# Altium schematic symbol library Thesis_Testboard_V1I1.SchLib: 33 symbols
Pins are listed as number, name and electrical type; pins without a type are passive.

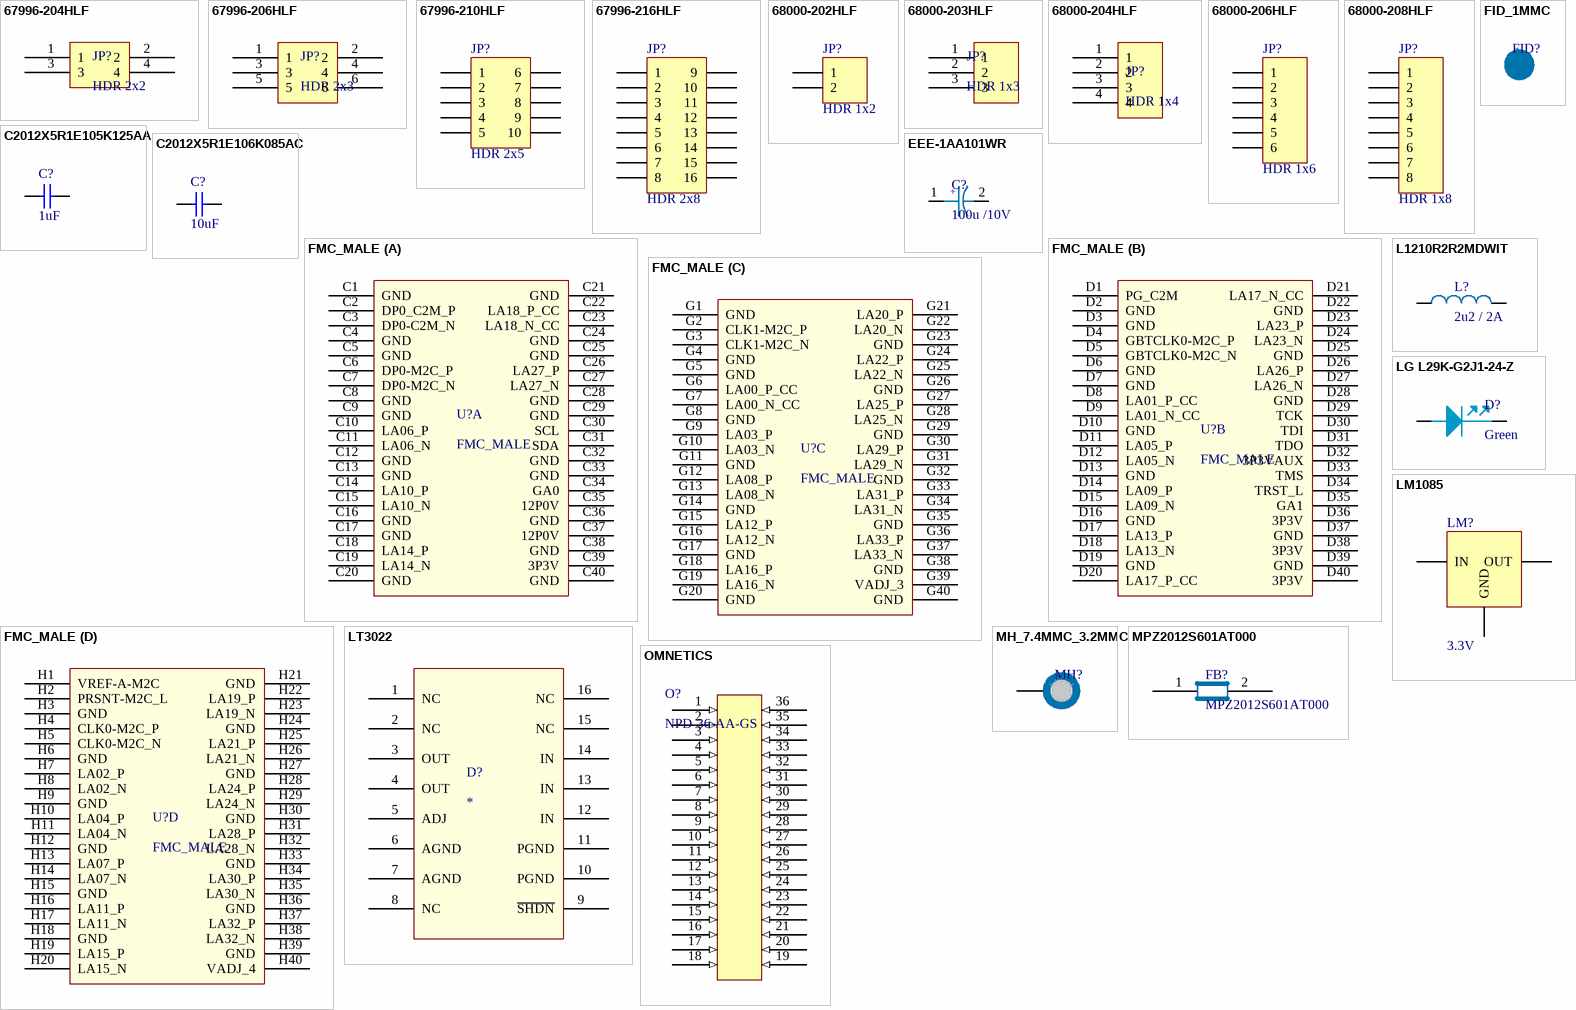
[diagram p0: symbols 67996-204HLF to OMNETICS]

## 67996-204HLF
designator JP?, comment HDR 2x2
B.II CONN HEADER 4POS .100 STR 15AU; Manufacturer: Amphenol FCI; Manufacturer Part Number: 67996-204HLF; Current Rating: 3A; Voltage Rating: 1.5kV; Number of Positions: 4; Insulation Resistance: 5GR; Gender: Male; Connector Type: Male Pin; Pitch: 2.54mm; Row Spacing: 0.1inch; Mating Post Length: 5.84mm; Supplier 1: Digi-Key; Stock 1: 304; Pricing 1: 1=0.31, 10=0.296, 100=0.2075, 500=0.1779, 1000=0.1482, 5000=0.1271, 10000=0.1186 (USD); Mount: Through Hole; Contact Plating: Nickel,Gold,GXT; Contact Material: Bronze; Colour: Black; Housing Colour: Black; Housing Material: Thermoplastic; Min Operating Temperature: -65°C; Max Operating Temperature: 125°C; Number of Rows: 2; Package Quantity: 100; Packaging: Bulk; Contact Gender: Male; Termination: Solder; Max Voltage Rating (AC): 1.5kV; Number of Contacts: 4; Orientation: Straight; Length: 5.08mm; Contact Mating Length: 0.23inch; Termination Post Length: 2.41mm; Depth: 4.83mm; Radiation Hardening: No; ComponentLink1URL: https://datasheet.ciiva.com/728/67996-728886.pdf; ComponentLink1Description: https://datasheet.ciiva.com/728/67996-728886.pdf; ComponentLink2URL: https://datasheet.ciiva.com/5162/67996-222023-5162283.pdf; ComponentLink2Description: https://datasheet.ciiva.com/5162/67996-222023-5162283.pdf; ComponentLink3URL: https://datasheet.ciiva.com/22872/70302478-22872987.pdf; ComponentLink3Description: https://datasheet.ciiva.com/22872/70302478-22872987.pdf; ComponentLink4URL: https://datasheet.ciiva.com/10149/67996-10149727.pdf; ComponentLink4Description: https://datasheet.ciiva.com/10149/67996-10149727.pdf; Supplier Part Number 1: 609-3209-ND
footprint HDR_2x2_2.54mm
pins: 1, 2, 3, 4

## 67996-206HLF
designator JP?, comment HDR 2x3
B.II CONN HEADER 6POS .100 STR 15AU; Manufacturer: Amphenol FCI; Manufacturer Part Number: 67996-206HLF; Number of Contacts: 6; Voltage Rating: 1.5kV; Gender: Male; Connector Type: Male Pin; Current Rating: 3A; Insulation Resistance: 5GR; Pitch: 2.54mm; Row Spacing: 0.1inch; Mating Post Length: 5.84mm; Supplier 1: Digi-Key; Stock 1: 6174; Pricing 1: 1=0.42, 10=0.397, 100=0.2778, 500=0.2381, 1000=0.1985, 5000=0.1701, 10000=0.1588 (USD); Mount: Through Hole; Colour: Black; Housing Colour: Black; Housing Material: Thermoplastic; Contact Plating: Nickel,Gold,GXT; Contact Material: Bronze; Min Operating Temperature: -65°C; Max Operating Temperature: 125°C; Number of Rows: 2; Termination: Solder; Package Quantity: 100; Packaging: Bulk; Contact Gender: Male; Number of Positions: 6; Max Voltage Rating (AC): 1.5kV; Orientation: Straight; Length: 7.62mm; Depth: 4.83mm; Contact Mating Length: 0.23inch; Termination Post Length: 2.41mm; Radiation Hardening: No; REACH SVHC: No SVHC; Flammability Rating: UL94 V-0; ComponentLink1URL: https://datasheet.ciiva.com/728/67996-728902.pdf; ComponentLink1Description: https://datasheet.ciiva.com/728/67996-728902.pdf; ComponentLink2URL: https://datasheet.ciiva.com/10149/67996-10149193.pdf; ComponentLink2Description: https://datasheet.ciiva.com/10149/67996-10149193.pdf; ComponentLink3URL: https://datasheet.ciiva.com/46393/1748781-46393068.pdf; ComponentLink3Description: https://datasheet.ciiva.com/46393/1748781-46393068.pdf; ComponentLink4URL: https://datasheet.ciiva.com/14642/70236869-14642013.pdf; ComponentLink4Description: https://datasheet.ciiva.com/14642/70236869-14642013.pdf; Supplier Part Number 1: 609-3210-ND
footprint HDR_2x3_2.54mm
pins: 1, 2, 3, 4, 5, 6

## 67996-210HLF
designator JP?, comment HDR 2x5
B.II CONN HEADER 10POS .100 STR 15AU; Manufacturer: Amphenol FCI; Manufacturer Part Number: 67996-210HLF; Number of Contacts: 10; Voltage Rating: 1.5kV; Gender: Male; Connector Type: Male Pin; Current Rating: 3A; Insulation Resistance: 5GR; Pitch: 2.54mm; Row Spacing: 0.1inch; Mating Post Length: 5.84mm; Supplier 1: Digi-Key; Stock 1: 294; Pricing 1: 1=0.67, 10=0.625, 100=0.4791, 500=0.4166, 1000=0.3437, 5000=0.302, 10000=0.2812 (USD); Mount: Through Hole; Colour: Black; Housing Colour: Black; Housing Material: Thermoplastic; Contact Plating: Nickel,Gold,GXT; Contact Material: Bronze; Min Operating Temperature: -65°C; Max Operating Temperature: 125°C; Number of Rows: 2; Termination: Solder; Contact Gender: Male; Package Quantity: 100; Packaging: Bulk; Number of Positions: 10; Max Voltage Rating (AC): 1.5kV; Orientation: Straight; Length: 12.7mm; Depth: 4.83mm; Termination Post Length: 2.41mm; Contact Mating Length: 0.23inch; Radiation Hardening: No; REACH SVHC: No SVHC; Lead Free: Lead Free; Flammability Rating: UL94 V-0; ComponentLink1URL: https://datasheet.ciiva.com/16726/67996-16726277.pdf; ComponentLink1Description: https://datasheet.ciiva.com/16726/67996-16726277.pdf; ComponentLink2URL: https://datasheet.ciiva.com/728/67996-728966.pdf; ComponentLink2Description: https://datasheet.ciiva.com/728/67996-728966.pdf; Supplier Part Number 1: 609-3212-ND
footprint HDR_2X5_2.54MM (Connector; Header; 5x2 Position)
pins: 1, 2, 3, 4, 5, 6, 7, 8, 9, 10

## 67996-216HLF
designator JP?, comment HDR 2x8
B.II CONN HEADER 16POS .100 STR 15AU; Manufacturer: Amphenol FCI; Manufacturer Part Number: 67996-216HLF; Current Rating: 3A; Voltage Rating: 1.5kV; Number of Positions: 16; Insulation Resistance: 5GR; Gender: Male; Connector Type: Male Pin; Pitch: 2.54mm; Mating Post Length: 5.84mm; Row Spacing: 0.1inch; Supplier 1: Digi-Key; Stock 1: 277; Pricing 1: 1=1.3, 10=1.141, 100=0.9843, 500=0.8053, 1000=0.7158, 5000=0.6264, 10000=0.595 (USD); Mount: Through Hole; Contact Plating: Nickel,Gold,GXT; Contact Material: Bronze; Colour: Black; Housing Colour: Black; Housing Material: Thermoplastic; Min Operating Temperature: -65°C; Max Operating Temperature: 125°C; Number of Rows: 2; Contact Gender: Male; Packaging: Bulk; Package Quantity: 100; Termination: Solder; Max Voltage Rating (AC): 1.5kV; Number of Contacts: 16; Orientation: Straight; Length: 20.32mm; Termination Post Length: 2.41mm; Contact Mating Length: 0.23inch; Depth: 4.83mm; Flammability Rating: UL94 V-0; ComponentLink1URL: https://datasheet.ciiva.com/5164/67996-223034-5164025.pdf; ComponentLink1Description: https://datasheet.ciiva.com/5164/67996-223034-5164025.pdf; ComponentLink2URL: https://datasheet.ciiva.com/10131/67996-10131066.pdf; ComponentLink2Description: https://datasheet.ciiva.com/10131/67996-10131066.pdf; ComponentLink3URL: https://datasheet.ciiva.com/726/67996-726509.pdf; ComponentLink3Description: https://datasheet.ciiva.com/726/67996-726509.pdf; Supplier Part Number 1: 609-3389-ND
footprint HDR_2X8_2.54mm (Connector; Header; 8x2 Position)
pins: 1, 2, 3, 4, 5, 6, 7, 8, 9, 10, 11, 12, 13, 14, 15, 16

## 68000-202HLF
designator JP?, comment HDR 1x2
B.II CONN HEADER 2POS .100 STR 15AU; Manufacturer: Amphenol FCI; Manufacturer Part Number: 68000-202HLF; Number of Contacts: 2; Current Rating: 3A; Voltage Rating: 1.5kV; Insulation Resistance: 5GR; Gender: Male; Connector Type: Male Pin; Pitch: 2.54mm; Mating Post Length: 5.84mm; Supplier 1: Digi-Key; Stock 1: 11031; Pricing 1: 1=0.26, 10=0.24, 100=0.1667, 500=0.141, 1000=0.1154, 5000=0.1026, 10000=0.093 (USD); Mount: Through Hole; Contact Plating: Nickel,Gold,GXT; Colour: Black; Contact Material: Bronze; Housing Colour: Black; Housing Material: Thermoplastic; Min Operating Temperature: -65°C; Max Operating Temperature: 125°C; Number of Rows: 1; Termination: Through Hole; Package Quantity: 100; Packaging: Bulk; Contact Gender: Male; Number of Positions: 2; Max Voltage Rating (AC): 1.5kV; Orientation: Straight; Length: 5.08mm; Contact Mating Length: 0.23inch; Termination Post Length: 2.41mm; Depth: 2.41mm; Radiation Hardening: No; REACH SVHC: No SVHC; Flammability Rating: UL94 V-0; Lead Free: Lead Free; ComponentLink1URL: https://datasheet.ciiva.com/721/68000-721376.pdf; ComponentLink1Description: https://datasheet.ciiva.com/721/68000-721376.pdf; ComponentLink2URL: https://datasheet.ciiva.com/16726/68000-16726249.pdf; ComponentLink2Description: https://datasheet.ciiva.com/16726/68000-16726249.pdf; ComponentLink3URL: https://datasheet.ciiva.com/10149/68000-10149325.pdf; ComponentLink3Description: https://datasheet.ciiva.com/10149/68000-10149325.pdf; Supplier Part Number 1: 609-3502-ND
footprint HDR_1X2_2.54mm (Connector; Header; 2 Position)
pins: 1, 2

## 68000-203HLF
designator JP?, comment HDR 1x3
B.II CONN HEADER 3POS .100 STR 15AU; Manufacturer: Amphenol FCI; Manufacturer Part Number: 68000-203HLF; Number of Contacts: 3; Current Rating: 3A; Voltage Rating: 1.5kV; Insulation Resistance: 5GR; Gender: Male; Connector Type: Male Pin; Pitch: 2.54mm; Mating Post Length: 5.84mm; Supplier 1: Digi-Key; Stock 1: 4708; Pricing 1: 1=0.27, 10=0.259, 100=0.1815, 500=0.1556, 1000=0.1297, 5000=0.1112, 10000=0.1037 (USD); Mount: Through Hole; Contact Plating: Nickel,Gold,GXT; Contact Material: Bronze; Colour: Black; Housing Colour: Black; Housing Material: Thermoplastic; Min Operating Temperature: -65°C; Max Operating Temperature: 125°C; Number of Rows: 1; Termination: Solder; Contact Gender: Male; Package Quantity: 100; Packaging: Bulk; Number of Positions: 3; Max Voltage Rating (AC): 1.5kV; Orientation: Straight; Length: 7.62mm; Termination Post Length: 2.41mm; Contact Mating Length: 0.23inch; Depth: 2.41mm; Radiation Hardening: No; REACH SVHC: No SVHC; Lead Free: Lead Free; ComponentLink1URL: https://datasheet.ciiva.com/5154/68000-274221-5154755.pdf; ComponentLink1Description: https://datasheet.ciiva.com/5154/68000-274221-5154755.pdf; ComponentLink2URL: https://datasheet.ciiva.com/46392/1914865-46392024.pdf; ComponentLink2Description: https://datasheet.ciiva.com/46392/1914865-46392024.pdf; ComponentLink3URL: https://datasheet.ciiva.com/16726/68000-16726250.pdf; ComponentLink3Description: https://datasheet.ciiva.com/16726/68000-16726250.pdf; ComponentLink4URL: https://datasheet.ciiva.com/731/68000-731067.pdf; ComponentLink4Description: https://datasheet.ciiva.com/731/68000-731067.pdf; ComponentLink5URL: https://datasheet.ciiva.com/10149/68000-10149758.pdf; ComponentLink5Description: https://datasheet.ciiva.com/10149/68000-10149758.pdf; Supplier Part Number 1: 609-3464-ND
footprint Hdr_1x3_2.54mm
pins: 1, 2, 3

## 68000-204HLF
designator JP?, comment HDR 1x4
B.II CONN HEADER 4POS .100 STR 15AU; Manufacturer: Amphenol FCI; Manufacturer Part Number: 68000-204HLF; Voltage Rating: 1.5kV; Number of Positions: 4; Gender: Male; Connector Type: Male Pin; Current Rating: 3A; Insulation Resistance: 5GR; Pitch: 2.54mm; Mating Post Length: 5.84mm; Supplier 1: Digi-Key; Stock 1: 4921; Pricing 1: 1=0.31, 10=0.293, 100=0.2048, 500=0.1756, 1000=0.1463, 5000=0.1254, 10000=0.117 (USD); Mount: Through Hole; Colour: Black; Housing Colour: Black; Housing Material: Thermoplastic; Contact Plating: Nickel,Gold,GXT; Contact Material: Bronze; Min Operating Temperature: -65°C; Max Operating Temperature: 125°C; Package Quantity: 100; Number of Rows: 1; Packaging: Bulk; Contact Gender: Male; Termination: Solder; Max Voltage Rating (AC): 1.5kV; Number of Contacts: 4; Orientation: Straight; Length: 10.16mm; Depth: 2.41mm; Contact Mating Length: 0.23inch; Termination Post Length: 2.41mm; Radiation Hardening: No; Flammability Rating: UL94 V-0; ComponentLink1URL: https://datasheet.ciiva.com/728/68000-728901.pdf; ComponentLink1Description: https://datasheet.ciiva.com/728/68000-728901.pdf; ComponentLink2URL: https://datasheet.ciiva.com/22873/70302489-22873093.pdf; ComponentLink2Description: https://datasheet.ciiva.com/22873/70302489-22873093.pdf; ComponentLink3URL: https://datasheet.ciiva.com/10149/68000-10149835.pdf; ComponentLink3Description: https://datasheet.ciiva.com/10149/68000-10149835.pdf; ComponentLink4URL: https://datasheet.ciiva.com/5149/68000-274280-5149869.pdf; ComponentLink4Description: https://datasheet.ciiva.com/5149/68000-274280-5149869.pdf; ComponentLink5URL: https://datasheet.ciiva.com/46395/1914865-46395853.pdf; ComponentLink5Description: https://datasheet.ciiva.com/46395/1914865-46395853.pdf; Supplier Part Number 1: 609-3255-ND
footprint Hdr_1x4_2.54mm
pins: 1, 2, 3, 4

## 68000-206HLF
designator JP?, comment HDR 1x6
B.II CONN HEADER 6POS .100 STR 15AU; Manufacturer: Amphenol FCI; Manufacturer Part Number: 68000-206HLF; Number of Contacts: 6; Voltage Rating: 1.5kV; Gender: Male; Connector Type: Male Pin; Current Rating: 3A; Insulation Resistance: 5GR; Pitch: 2.54mm; Mating Post Length: 5.84mm; Supplier 1: Digi-Key; Stock 1: 11978; Pricing 1: 1=0.34, 10=0.321, 100=0.2249, 500=0.1928, 1000=0.1607, 5000=0.1377, 10000=0.1285 (USD); Mount: Through Hole; Colour: Black; Contact Plating: Nickel,Gold,GXT; Housing Colour: Black; Housing Material: Thermoplastic; Contact Material: Bronze; Min Operating Temperature: -65°C; Max Operating Temperature: 125°C; Number of Rows: 1; Termination: Solder; Package Quantity: 100; Packaging: Bulk; Contact Gender: Male; Number of Positions: 6; Max Voltage Rating (AC): 1.5kV; Orientation: Straight; Length: 15.24mm; Depth: 2.41mm; Contact Mating Length: 0.23inch; Termination Post Length: 2.41mm; Radiation Hardening: No; REACH SVHC: No SVHC; Flammability Rating: UL94 V-0; ComponentLink1URL: https://datasheet.ciiva.com/728/68000-728913.pdf; ComponentLink1Description: https://datasheet.ciiva.com/728/68000-728913.pdf; ComponentLink2URL: https://datasheet.ciiva.com/14643/70236741-14643030.pdf; ComponentLink2Description: https://datasheet.ciiva.com/14643/70236741-14643030.pdf; ComponentLink3URL: https://datasheet.ciiva.com/10148/68000-10148986.pdf; ComponentLink3Description: https://datasheet.ciiva.com/10148/68000-10148986.pdf; ComponentLink4URL: https://datasheet.ciiva.com/16726/68000-16726251.pdf; ComponentLink4Description: https://datasheet.ciiva.com/16726/68000-16726251.pdf; Supplier Part Number 1: 609-3256-ND
footprint HDR_1X6_2.54mm (Connector; Header; 6 Position)
pins: 1, 2, 3, 4, 5, 6

## 68000-208HLF
designator JP?, comment HDR 1x8
B.II CONN HEADER 8POS .100 STR 15AU; Manufacturer: Amphenol FCI; Manufacturer Part Number: 68000-208HLF; Current Rating: 3A; Voltage Rating: 1.5kV; Number of Positions: 8; Insulation Resistance: 5GR; Gender: Male; Connector Type: Male Pin; Pitch: 2.54mm; Mating Post Length: 5.84mm; Supplier 1: Digi-Key; Stock 1: 955; Pricing 1: 1=0.45, 10=0.429, 100=0.3001, 500=0.2573, 1000=0.2144, 5000=0.1838, 10000=0.1715 (USD); Mount: Through Hole; Contact Plating: Nickel,Gold,GXT; Contact Material: Bronze; Colour: Black; Housing Colour: Black; Housing Material: Thermoplastic; Min Operating Temperature: -65°C; Max Operating Temperature: 125°C; Number of Rows: 1; Contact Gender: Male; Packaging: Bulk; Package Quantity: 100; Termination: Solder; Max Voltage Rating (AC): 1.5kV; Number of Contacts: 8; Orientation: Straight; Length: 20.32mm; Termination Post Length: 2.41mm; Contact Mating Length: 0.23inch; Depth: 2.41mm; Radiation Hardening: No; REACH SVHC: No SVHC; Flammability Rating: UL94 V-0; ComponentLink1URL: https://datasheet.ciiva.com/728/68000-728927.pdf; ComponentLink1Description: https://datasheet.ciiva.com/728/68000-728927.pdf; ComponentLink2URL: https://datasheet.ciiva.com/10143/68000-10143263.pdf; ComponentLink2Description: https://datasheet.ciiva.com/10143/68000-10143263.pdf; Supplier Part Number 1: 609-3257-ND
footprint HDR_1X8_2.54mm (Connector; Header; 8 Position)
pins: 1, 2, 3, 4, 5, 6, 7, 8

## C2012X5R1E105K125AA
designator C?, comment 1uF
CAP 1UF; Manufacturer: TDK; Manufacturer Part Number: C2012X5R1E105K125AA; Dielectric Material: Ceramic; Tolerance: 10%; Voltage Rating: 25V; Dielectric: X5R; Supplier 1: Digi-Key; Stock 1: 517560; Pricing 1: 1=0.21, 10=0.146, 100=0.0688, 500=0.0482, 1000=0.0399 (USD); Mount: Surface Mount; Case/Package: 0805; Number of Pins: 2; Weight: 0.000194oz; Case Code (Metric): 2012; Case Code (Imperial): 0805; Min Operating Temperature: -55°C; Max Operating Temperature: 85°C; Package Quantity: 2000; Capacitance: 1uF; Packaging: Tape and Reel; Voltage Rating (DC): 25V; Termination: SMD/SMT; Composition: Ceramic; Voltage: 25V; Length: 2mm; Height: 1.25mm; Width: 0.049inch; Thickness: 0.057inch; Depth: 1.25mm; Radiation Hardening: No; REACH SVHC: No SVHC; Lead Free: Lead Free; ComponentLink1URL: https://datasheet.ciiva.com/11787/0900766b80c1bb00-11787608.pdf; ComponentLink1Description: https://datasheet.ciiva.com/11787/0900766b80c1bb00-11787608.pdf; ComponentLink2URL: https://datasheet.ciiva.com/24218/c2012x5r1e105k125aa-264807-24218920.pdf; ComponentLink2Description: https://datasheet.ciiva.com/24218/c2012x5r1e105k125aa-264807-24218920.pdf; ComponentLink3URL: https://datasheet.ciiva.com/16449/e412-c-16449595.pdf; ComponentLink3Description: https://datasheet.ciiva.com/16449/e412-c-16449595.pdf; ComponentLink4URL: https://datasheet.ciiva.com/28602/1744655-28602171.pdf; ComponentLink4Description: https://datasheet.ciiva.com/28602/1744655-28602171.pdf; ComponentLink5URL: https://datasheet.ciiva.com/15192/getdatasheetpartid-726707-15192140.pdf; ComponentLink5Description: https://datasheet.ciiva.com/15192/getdatasheetpartid-726707-15192140.pdf; Supplier Part Number 1: 445-1419-1-ND
footprint C0805
pins: 1, 2

## C2012X5R1E106K085AC
designator C?, comment 10uF
CAP 10UF; Manufacturer: TDK; Manufacturer Part Number: C2012X5R1E106K085AC; Dielectric Material: Ceramic; Tolerance: 10%; Voltage Rating: 25V; Dielectric: X5R; Supplier 1: Digi-Key; Stock 1: 18719; Pricing 1: 1=0.75, 10=0.53, 100=0.3493, 500=0.2588, 1000=0.2199 (USD); Mount: Surface Mount; Case/Package: 0805; Weight: 0.000194oz; Case Code (Metric): 2012; Case Code (Imperial): 0805; Min Operating Temperature: -55°C; Max Operating Temperature: 85°C; Package Quantity: 4000; Packaging: Tape and Reel; Capacitance: 10uF; Termination: SMD/SMT; Voltage Rating (DC): 25V; Length: 0.079inch; Height: 0.85mm; Width: 0.049inch; Thickness: 0.039inch; Lead Free: Lead Free; ComponentLink1URL: https://datasheet.ciiva.com/14894/tdkmlcccaprange-14894629.pdf; ComponentLink1Description: https://datasheet.ciiva.com/14894/tdkmlcccaprange-14894629.pdf; ComponentLink2URL: https://datasheet.ciiva.com/14894/tdkmlcccaprange-14894616.pdf; ComponentLink2Description: https://datasheet.ciiva.com/14894/tdkmlcccaprange-14894616.pdf; ComponentLink3URL: https://datasheet.ciiva.com/14894/tdkmlcccaprange-14894632.pdf; ComponentLink3Description: https://datasheet.ciiva.com/14894/tdkmlcccaprange-14894632.pdf; Supplier Part Number 1: 445-14387-1-ND
footprint C0805
pins: 1, 2

## EEE-1AA101WR
designator C?, comment 100u /10V
CAP ALUM 100UF 20% 10V SMD; Manufacturer: Panasonic Electronic Components; Manufacturer Part Number: EEE-1AA101WR; Lifetime @ Temp.: 1000 Hrs @ 85°C; Polarization: Polar; Surface Mount Land Size: 0.209" L x 0.209" W (5.30mm x 5.30mm); Supplier 1: Digi-Key; RoHS: RoHS Compliant; Category: Capacitors; Stock 1: 89696; Pricing 1: 1=0.31, 10=0.212, 100=0.1272, 500=0.09538 (USD); Packaging: Cut Tape (CT); Part Status: Active; Tolerance: ±20%; ESR (Equivalent Series Resistance): -; Operating Temperature: -40°C ~ 85°C; Ratings: AEC-Q200; Applications: Automotive; Lead Spacing: -; Size / Dimension: 0.197" Dia (5.00mm); Height - Seated (Max): 0.213" (5.40mm); Mounting Type: Surface Mount; Package / Case: Radial, Can - SMD; ComponentLink1URL: https://industrial.panasonic.com/cdbs/www-data/pdf/RDE0000/ABA0000C1145.pdf; ComponentLink1Description: https://industrial.panasonic.com/cdbs/www-data/pdf/RDE0000/ABA0000C1145.pdf; Supplier Part Number 1: PCE3867CT-ND
footprint C_ALU_C_SIZE
pins: 1, 2
text: +

## FID_1MMC
designator FID?  (value not drawn)  (no BOM)
Fiducial 40mil Diameter, 120mil Mask
footprint FID_40X120D

## FMC_MALE
designator U?
ASP-134604-01; Manufacturer: Samtec; Number of Contacts: 400; Number of Positions: 160; Gender: Male; Pitch: 0.05inch; Supplier 1: Digi-Key; Manufacturer Part Number: ASP-134604-01; Stock 1: 129; Pricing 1: 1=13.68, 10=13.224, 25=12.768, 50=12.312, 100=11.856, 250=11.628, 500=11.4 (USD); Mount: Surface Mount; Contact Plating: Nickel,Gold; Contact Material: Copper Alloy; Number of Rows: 4; Termination: SMD/SMT; Packaging: Tape and Reel; Radiation Hardening: No; REACH SVHC: No SVHC; ComponentLink1URL: https://datasheet.ciiva.com/403/asp-134604-01-403751.pdf; ComponentLink1Description: https://datasheet.ciiva.com/403/asp-134604-01-403751.pdf; ComponentLink2URL: https://datasheet.ciiva.com/9532/asp-134604-01-9532665.pdf; ComponentLink2Description: https://datasheet.ciiva.com/9532/asp-134604-01-9532665.pdf; Supplier Part Number 1: SAM8732-ND
footprint FMC_male
part A pins: C1 GND, C2 DP0_C2M_P, C3 DP0-C2M_N, C4 GND, C5 GND, C6 DP0-M2C_P, C7 DP0-M2C_N, C8 GND, C9 GND, C10 LA06_P, C11 LA06_N, C12 GND, C13 GND, C14 LA10_P, C15 LA10_N, C16 GND, C17 GND, C18 LA14_P, C19 LA14_N, C20 GND, C21 GND, C22 LA18_P_CC, C23 LA18_N_CC, C24 GND, C25 GND, C26 LA27_P, C27 LA27_N, C28 GND, C29 GND, C30 SCL, C31 SDA, C32 GND, C33 GND, C34 GA0, C35 12P0V, C36 GND, C37 12P0V, C38 GND, C39 3P3V, C40 GND
part B pins: D1 PG_C2M, D2 GND, D3 GND, D4 GBTCLK0-M2C_P, D5 GBTCLK0-M2C_N, D6 GND, D7 GND, D8 LA01_P_CC, D9 LA01_N_CC, D10 GND, D11 LA05_P, D12 LA05_N, D13 GND, D14 LA09_P, D15 LA09_N, D16 GND, D17 LA13_P, D18 LA13_N, D19 GND, D20 LA17_P_CC, D21 LA17_N_CC, D22 GND, D23 LA23_P, D24 LA23_N, D25 GND, D26 LA26_P, D27 LA26_N, D28 GND, D29 TCK, D30 TDI, D31 TDO, D32 3P3VAUX, D33 TMS, D34 TRST_L, D35 GA1, D36 3P3V, D37 GND, D38 3P3V, D39 GND, D40 3P3V
part C pins: G1 GND, G2 CLK1-M2C_P, G3 CLK1-M2C_N, G4 GND, G5 GND, G6 LA00_P_CC, G7 LA00_N_CC, G8 GND, G9 LA03_P, G10 LA03_N, G11 GND, G12 LA08_P, G13 LA08_N, G14 GND, G15 LA12_P, G16 LA12_N, G17 GND, G18 LA16_P, G19 LA16_N, G20 GND, G21 LA20_P, G22 LA20_N, G23 GND, G24 LA22_P, G25 LA22_N, G26 GND, G27 LA25_P, G28 LA25_N, G29 GND, G30 LA29_P, G31 LA29_N, G32 GND, G33 LA31_P, G34 LA31_N, G35 GND, G36 LA33_P, G37 LA33_N, G38 GND, G39 VADJ_3, G40 GND
part D pins: H1 VREF-A-M2C, H2 PRSNT-M2C_L, H3 GND, H4 CLK0-M2C_P, H5 CLK0-M2C_N, H6 GND, H7 LA02_P, H8 LA02_N, H9 GND, H10 LA04_P, H11 LA04_N, H12 GND, H13 LA07_P, H14 LA07_N, H15 GND, H16 LA11_P, H17 LA11_N, H18 GND, H19 LA15_P, H20 LA15_N, H21 GND, H22 LA19_P, H23 LA19_N, H24 GND, H25 LA21_P, H26 LA21_N, H27 GND, H28 LA24_P, H29 LA24_N, H30 GND, H31 LA28_P, H32 LA28_N, H33 GND, H34 LA30_P, H35 LA30_N, H36 GND, H37 LA32_P, H38 LA32_N, H39 GND, H40 VADJ_4

## L1210R2R2MDWIT
designator L?, comment 2u2 / 2A
FIXED IND 2.2UH 2A 80 MOHM SMD; Manufacturer: KEMET; Manufacturer Part Number: L1210R2R2MDWIT; Core Material: Ferrite; Tolerance: 20%; Shielding: Unshielded; Self Resonant Frequency: 190MHz; DC Resistance (DCR): 80mR; Test Frequency: 100kHz; DC Current: 1.13A; Supplier 1: Digi-Key; Stock 1: 24768; Pricing 1: 1=0.55, 10=0.479, 100=0.3421, 500=0.2874 (USD); Mount: Surface Mount; Case/Package: 1210; Case Code (Metric): 3225; Case Code (Imperial): 1210; Min Operating Temperature: -40°C; Max Operating Temperature: 105°C; Inductance: 2.2uh; Max DC Current: 2A; Package Quantity: 1000; Current Rating: 2A; Packaging: Tape and Reel; Inductance Tolerance: 20%; Composition: Wirewound,Ceramic; Termination: SMD/SMT; Military Standard: Not; Length: 0.126inch; Height: 2.5mm; Width: 0.098inch; Height - Seated (Max): 0.106inch; Depth: 2.7mm; Radiation Hardening: No; REACH SVHC: No SVHC; ComponentLink1URL: https://datasheet.ciiva.com/4957/f3115-4957838.pdf; ComponentLink1Description: https://datasheet.ciiva.com/4957/f3115-4957838.pdf; ComponentLink2URL: https://datasheet.ciiva.com/17280/f3115-17280270.pdf; ComponentLink2Description: https://datasheet.ciiva.com/17280/f3115-17280270.pdf; ComponentLink3URL: https://datasheet.ciiva.com/22685/27262-22685038.pdf; ComponentLink3Description: https://datasheet.ciiva.com/22685/27262-22685038.pdf; ComponentLink4URL: https://datasheet.ciiva.com/6691/f3115-6691487.pdf; ComponentLink4Description: https://datasheet.ciiva.com/6691/f3115-6691487.pdf; ComponentLink5URL: https://datasheet.ciiva.com/8512/f3115-8512543.pdf; ComponentLink5Description: https://datasheet.ciiva.com/8512/f3115-8512543.pdf; Supplier Part Number 1: 399-9598-1-ND
footprint C1210_IND
pins: 1, 2

## LG L29K-G2J1-24-Z
designator D?, comment Green
LED GREEN DIFFUSED 0603 SMD; Manufacturer: OSRAM Opto Semiconductors Inc.; Manufacturer Part Number: LG L29K-G2J1-24-Z; Lens Color: White; Millicandela Rating: 3.92mcd; Lens Style/Size: Rectangle with Flat Top, 1.30mm x 0.80mm; Voltage - Forward (Vf) (Typ): 1.7V; Current - Test: 2mA; Viewing Angle: 160°; Wavelength - Dominant: 570nm; Wavelength - Peak: 572nm; Supplier 1: Digi-Key; RoHS: RoHS Compliant; Category: Optoelectronics; Stock 1: 0; Pricing 1: 1=0.47, 10=0.339, 25=0.2768, 100=0.2215, 250=0.18688, 500=0.15918, 1000=0.12458, 2500=0.1142 (USD); Packaging: Cut Tape (CT); Part Status: Active; Color: Green; Lens Transparency: Diffused; Mounting Type: Surface Mount; Features: -; Package / Case: 0603 (1608 Metric); Supplier Device Package: 0603; Size / Dimension: 1.70mm L x 0.80mm W; Height (Max): 0.65mm; ComponentLink1URL: http://www.osram-os.com/Graphics/XPic0/00167682_0.pdf; ComponentLink1Description: http://www.osram-os.com/Graphics/XPic0/00167682_0.pdf; Supplier Part Number 1: 475-2709-1-ND
footprint LED_0603
pins: 1 Cathode, 2 Anode

## LM1085
designator LM?, comment 3.3V
LM1085ISX-3.3/NOPB; Manufacturer: TI National Semiconductor; Number of Outputs: 1; Min Input Voltage: 2.6V; Max Input Voltage: 27V; Max Output Current: 3A; Polarity: Positive; Quiescent Current: 10mA; Dropout Voltage: 1.3V; Min Current Limit: 3.2A; Supplier 1: Digi-Key; Manufacturer Part Number: LM1085ISX-3.3/NOPB; Stock 1: 6242; Pricing 1: 1=2.03, 10=1.826, 100=1.4677 (USD); Mount: Surface Mount; Case/Package: TO-263; Number of Pins: 3; Contact Plating: Tin,Matte; Min Operating Temperature: -40°C; Max Operating Temperature: 125°C; Output Voltage: 3.3V; Nominal Output Voltage: 3.3V; Output Current: 3A; Packaging: Tape and Reel; Package Quantity: 500; Number of Regulators: 1; Length: 10.16mm; Height: 4.57mm; Width: 8.64mm; Radiation Hardening: No; REACH SVHC: No SVHC; Lead Free: Contains Lead; ComponentLink1URL: https://datasheet.ciiva.com/15111/getdatasheetpartid-55637-15111252.pdf; ComponentLink1Description: https://datasheet.ciiva.com/15111/getdatasheetpartid-55637-15111252.pdf; ComponentLink2URL: https://datasheet.ciiva.com/26167/lm1085-26167653.pdf; ComponentLink2Description: https://datasheet.ciiva.com/26167/lm1085-26167653.pdf; ComponentLink3URL: https://datasheet.ciiva.com/3223/lm1085-3223480.pdf; ComponentLink3Description: https://datasheet.ciiva.com/3223/lm1085-3223480.pdf; ComponentLink4URL: https://datasheet.ciiva.com/6582/lm1085-6582715.pdf; ComponentLink4Description: https://datasheet.ciiva.com/6582/lm1085-6582715.pdf; ComponentLink5URL: https://datasheet.ciiva.com/34302/1278979-34302139.pdf; ComponentLink5Description: https://datasheet.ciiva.com/34302/1278979-34302139.pdf; ComponentLink6URL: https://datasheet.ciiva.com/6582/lm1085-6582716.pdf; ComponentLink6Description: https://datasheet.ciiva.com/6582/lm1085-6582716.pdf; ComponentLink7URL: https://datasheet.ciiva.com/6582/lm1085-6582718.pdf; ComponentLink7Description: https://datasheet.ciiva.com/6582/lm1085-6582718.pdf; ComponentLink8URL: https://datasheet.ciiva.com/41457/001013599-da-01-en-ic-reg-l-lm1085isx-3-3-nopb-to-263-3-tid-41457356.pdf; ComponentLink8Description: https://datasheet.ciiva.com/41457/001013599-da-01-en-ic-reg-l-lm1085isx-3-3-nopb-to-263-3-tid-41457356.pdf; Supplier Part Number 1: LM1085ISX-3.3/NOPBCT-ND
footprint LM1085 (D2-PAK; 3 Leads; Body 14.4 (inc. leads) x 10.4 mm (LxW max))
pins: 1 GND, 2 OUT, 3 IN

## LT3022
designator D?
LT3022EDHC#PBF; Manufacturer: Analog Devices / Linear Technology; Output Voltage: 9.5V; Max Output Current: 1A; Dropout Voltage: 145mV; Number of Outputs: 1; Max Input Voltage: 10V; Min Input Voltage: 900mV; Min Current Limit: 1.1A; Quiescent Current: 400uA; Reference Voltage: 200mV; Polarity: Positive; Power Supply Rejection Ratio (PSRR): 70dB; Supplier 1: Digi-Key; Manufacturer Part Number: LT3022EDHC#PBF; Stock 1: 286; Pricing 1: 1=5.95, 25=3.978, 100=3.3864 (USD); Case/Package: DFN; Number of Pins: 16; Min Operating Temperature: -40°C; Max Operating Temperature: 125°C; Output Current: 1A; Package Quantity: 73; Packaging: Rail/Tube; Number of Regulators: 1; Min Output Voltage: 200mV; Max Output Voltage: 9.5V; Operating Supply Current: 400uA; Length: 5mm; Height: 0.7mm; Width: 3mm; REACH SVHC: No SVHC; ComponentLink1URL: https://datasheet.ciiva.com/30477/0900766b81222c57-30477124.pdf; ComponentLink1Description: https://datasheet.ciiva.com/30477/0900766b81222c57-30477124.pdf; ComponentLink2URL: https://datasheet.ciiva.com/5698/3022fb-5698406.pdf; ComponentLink2Description: https://datasheet.ciiva.com/5698/3022fb-5698406.pdf; ComponentLink3URL: https://datasheet.ciiva.com/8041/1679618-8041869.pdf; ComponentLink3Description: https://datasheet.ciiva.com/8041/1679618-8041869.pdf; ComponentLink4URL: https://datasheet.ciiva.com/2041/29322-2041663.pdf; ComponentLink4Description: https://datasheet.ciiva.com/2041/29322-2041663.pdf; ComponentLink5URL: https://datasheet.ciiva.com/26909/lt3022edhc-pbf-26909424.pdf; ComponentLink5Description: https://datasheet.ciiva.com/26909/lt3022edhc-pbf-26909424.pdf; Supplier Part Number 1: LT3022EDHC#PBF-ND
footprint LT3022
pins: 1 NC, 2 NC, 3 OUT, 4 OUT, 5 ADJ, 6 AGND, 7 AGND, 8 NC, 9 ~{SHDN}, 10 PGND, 11 PGND, 12 IN, 13 IN, 14 IN, 15 NC, 16 NC

## MH_7.4MMC_3.2MMC
designator MH?, comment MH_7.4MMC_3.2MMD  (value not drawn)  (no BOM)
Mounting Hole 7.4mm Diameter, 3.2mm Drill
footprint MH_7.4MMD_3.2MMD
pins: 1

## MPZ2012S601AT000
designator FB?
FERRITE BEAD 600 OHM 0805 1LN; Manufacturer: TDK Corporation; Filter Type: Power Line; Current Rating (Max): 2A; DC Resistance (DCR) (Max): 100 mOhm; Supplier 1: Digi-Key; Manufacturer Part Number: MPZ2012S601AT000; RoHS: RoHS Compliant; Category: Filters; Stock 1: 379833; Pricing 1: 1=0.11, 10=0.091, 25=0.0704, 50=0.0584, 100=0.0503, 250=0.04028, 500=0.03624, 1000=0.0302 (USD); Packaging: Cut Tape (CT); Part Status: Active; Ratings: -; Operating Temperature: -55°C ~ 125°C; Package / Case: 0805 (2012 Metric); Mounting Type: Surface Mount; Height (Max): 0.041" (1.05mm); Size / Dimension: 0.079" L x 0.049" W (2.00mm x 1.25mm); ComponentLink1URL: https://product.tdk.com/info/en/catalog/datasheets/beads_commercial_power_mpz2012_en.pdf; ComponentLink1Description: https://product.tdk.com/info/en/catalog/datasheets/beads_commercial_power_mpz2012_en.pdf; Supplier Part Number 1: 445-2206-1-ND
footprint C0805
pins: 1, 2

## OMNETICS
designator O?, comment NPD-36-AA-GS
footprint OMNETICS
pins: 1 (in), 2 (in), 3 (in), 4 (in), 5 (in), 6 (in), 7 (in), 8 (in), 9 (in), 10 (in), 11 (in), 12 (in), 13 (in), 14 (in), 15 (in), 16 (in), 17 (in), 18 (in), 19 (in), 20 (in), 21 (in), 22 (in), 23 (in), 24 (in), 25 (in), 26 (in), 27 (in), 28 (in), 29 (in), 30 (in), 31 (in), 32 (in), 33 (in), 34 (in), 35 (in), 36 (in)

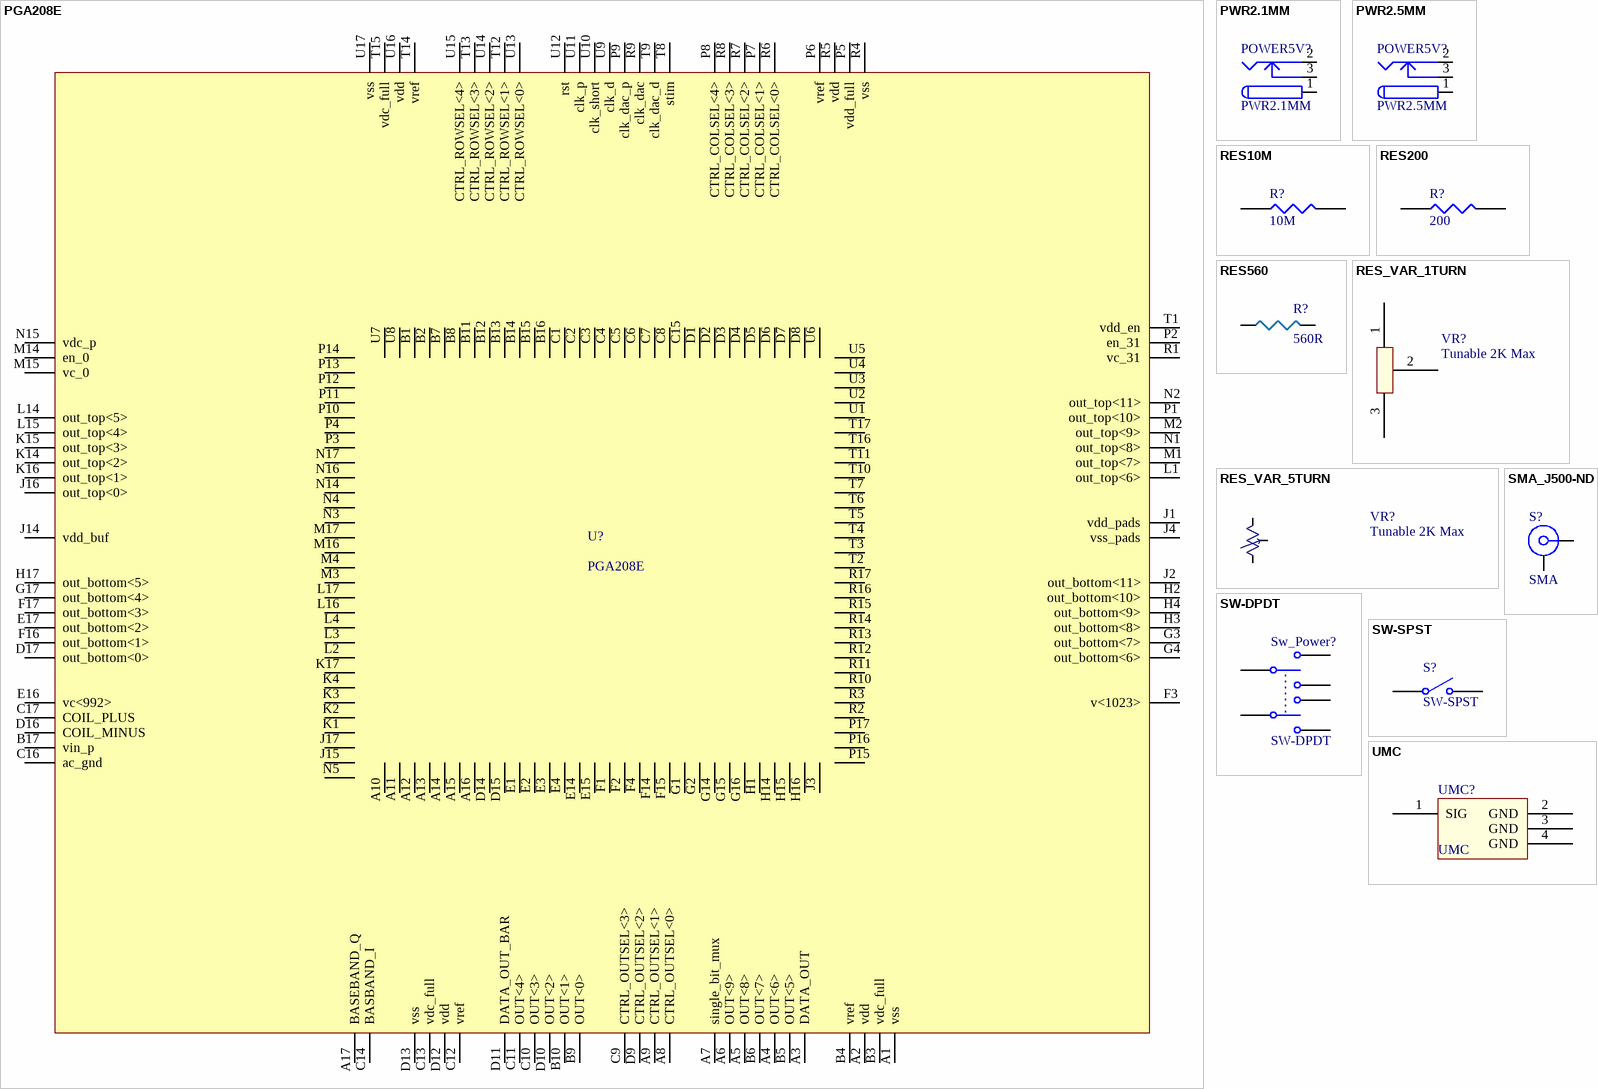
[diagram p1: symbols PGA208E to UMC]

## PGA208E
designator U?
footprint PGA208x17
footprint PGA208x17
pins: A1 vss, A2 vdd, A3 DATA_OUT, A4 OUT<6>, A5 OUT<8>, A6 OUT<9>, A7 single_bit_mux, A8 CTRL_OUTSEL<0>, A9 CTRL_OUTSEL<1>, A10, A11, A12, A13, A14, A15, A16, A17 BASEBAND_Q, B1, B2, B3 vdc_full, B4 vref, B5 OUT<5>, B6 OUT<7>, B7, B8, B9 OUT<0>, B10 OUT<1>, B11, B12, B13, B14, B15, B16, B17 vin_p, C1, C2, C3, C4, C5, C6, C7, C8, C9 CTRL_OUTSEL<3>, C10 OUT<3>, C11 OUT<4>, C12 vref, C13 vdc_full, C14 BASBAND_I, C15, C16 ac_gnd, C17 COIL_PLUS, D1, D2, D3, D4, D5, D6, D7, D8, D9 CTRL_OUTSEL<2>, D10 OUT<2>, D11 DATA_OUT_BAR, D12 vdd, D13 vss, D14, D15, D16 COIL_MINUS, D17 out_bottom<0>, E1, E2, E3, E4, E14, E15, E16 vc<992>, E17 out_bottom<2>, F1, F2, F3 v<1023>, F4, F14, F15, F16 out_bottom<1>, F17 out_bottom<3>, G1, G2, G3 out_bottom<7>, G4 out_bottom<6>, G14, G15, G16, G17 out_bottom<4>, H1, H2 out_bottom<10>, H3 out_bottom<8>, H4 out_bottom<9>, H14, H15, H16, H17 out_bottom<5>, J1 vdd_pads, J2 out_bottom<11>, J3, J4 vss_pads, J14 vdd_buf, J15, J16 out_top<0>, J17, K1, K2, K3, K4, K14 out_top<2>, K15 out_top<3>, K16 out_top<1>, K17, L1 out_top<6>, L2, L3, L4, L14 out_top<5>, L15 out_top<4>, L16, L17, M1 out_top<7>, M2 out_top<9>, M3, M4, M14 en_0, M15 vc_0, M16, M17, N1 out_top<8>, N2 out_top<11>, N3, N4, N5, N14, N15 vdc_p, N16, N17, P1 out_top<10>, P2 en_31, P3, P4, P5 vdd_full, P6 vref, P7 CTRL_COLSEL<1>, P8 CTRL_COLSEL<4>, P9 clk_dac_p, P10, P11, P12, P13, P14, P15, P16, P17, R1 vc_31, R2, R3, R4 vss, R5 vdd, R6 CTRL_COLSEL<0>, R7 CTRL_COLSEL<2>, R8 CTRL_COLSEL<3>, R9 clk_dac, R10, R11, R12, R13, R14, R15, R16, R17, T1 vdd_en, T2, T3, T4, T5, T6, T7, T8 stim, T9 clk_dac_d, T10, T11, T12 CTRL_ROWSEL<1>, T13 CTRL_ROWSEL<3>, T14 vref, T15 vdc_full, T16, T17, U1, U2, U3, U4, U5, U6, U7, U8, U9 clk_d, U10 clk_short, U11 clk_p, U12 rst, U13 CTRL_ROWSEL<0>, U14 CTRL_ROWSEL<2>, U15 CTRL_ROWSEL<4>, U16 vdd, U17 vss

## PWR2.1MM
designator POWER5V?
PJ-002AH; Manufacturer: CUI; Gender: Male; Shielding: Unshielded; Connector Type: Jack; Current Rating: 5A; Number of Conductors: 2; Voltage Rating: 24V; Insulation Resistance: 50MR; Supplier 1: Digi-Key; Manufacturer Part Number: PJ-002AH; Stock 1: 95768; Pricing 1: 1=0.74, 10=0.696, 25=0.6264, 50=0.5568, 100=0.5336, 250=0.4872, 500=0.464, 1000=0.3828, 2500=0.348 (USD); Mount: Through Hole; Colour: Black; Contact Material: Copper,Copper Alloy; Contact Plating: Nickel; Housing Material: Thermoplastic; Housing Colour: Black; Min Operating Temperature: -25°C; Max Operating Temperature: 85°C; Packaging: Bulk; Termination: Through Hole; Orientation: Horizontal; Package Quantity: 500; Contact Gender: Male; Diameter: 2.1mm; Lead Free: Lead Free; Flammability Rating: UL94 V-0; ComponentLink1URL: http://www.cui.com/Product/Resource/FuturePDF/PJ-002AH.pdf; ComponentLink1Description: http://www.cui.com/Product/Resource/FuturePDF/PJ-002AH.pdf; ComponentLink2URL: http://www.cui.com/product/resource/digikeypdf/pj-002ah.pdf; ComponentLink2Description: http://www.cui.com/product/resource/digikeypdf/pj-002ah.pdf; ComponentLink3URL: http://www.mouser.com/ds/2/670/pj-002ah-516007.pdf; ComponentLink3Description: http://www.mouser.com/ds/2/670/pj-002ah-516007.pdf; Supplier Part Number 1: CP-002AH-ND
footprint POWER2.1MM
pins: 1 (power), 2 (power), 3 (power)

## PWR2.5MM
designator POWER5V?
PJ-002BH; Manufacturer: CUI; Gender: Male; Shielding: Unshielded; Current Rating: 5A; Connector Type: Jack; Voltage Rating: 24V; Insulation Resistance: 100MR; Number of Conductors: 2; Supplier 1: Digi-Key; Manufacturer Part Number: PJ-002BH; Stock 1: 29521; Pricing 1: 1=0.74, 10=0.696, 25=0.6264, 50=0.5568, 100=0.5336, 250=0.4872, 500=0.464, 1000=0.3828, 2500=0.348 (USD); Mount: Through Hole; Contact Material: Copper,Copper Alloy; Contact Plating: Nickel; Housing Colour: Black; Housing Material: Thermoplastic; Colour: Black; Min Operating Temperature: -25°C; Max Operating Temperature: 85°C; Termination: Through Hole; Package Quantity: 500; Packaging: Bulk; Contact Gender: Male; Orientation: Horizontal; Diameter: 2.5mm; Lead Free: Lead Free; Flammability Rating: UL94 V-0; ComponentLink1URL: http://www.cui.com/Product/Resource/FuturePDF/PJ-002BH.pdf; ComponentLink1Description: http://www.cui.com/Product/Resource/FuturePDF/PJ-002BH.pdf; ComponentLink2URL: http://www.mouser.com/ds/2/670/pj-002bh-528069.pdf; ComponentLink2Description: http://www.mouser.com/ds/2/670/pj-002bh-528069.pdf; ComponentLink3URL: http://www.cui.com/product/resource/digikeypdf/pj-002bh.pdf; ComponentLink3Description: http://www.cui.com/product/resource/digikeypdf/pj-002bh.pdf; Supplier Part Number 1: CP-002BH-ND
footprint POWER2.5MM
pins: 1 (power), 2 (power), 3 (power)

## RES10M
designator R?, comment 10M
RC0805FR-0710ML; Manufacturer: Yageo; Voltage Rating: 150V; Power Rating: 125mW; Tolerance: 1%; Resistance: 10MR; Temperature Coefficient: 100ppm/°C; Supplier 1: Digi-Key; Manufacturer Part Number: RC0805FR-0710ML; Stock 1: 482639; Pricing 1: 1=0.1, 10=0.023, 100=0.0094, 1000=0.0042, 2500=0.0037 (USD); Case/Package: 0805; Number of Pins: 2; Case Code (Imperial): 0805; Case Code (Metric): 2012; Min Operating Temperature: -55°C; Max Operating Temperature: 155°C; Packaging: Tape and Reel; Voltage Rating (DC): 150V; Termination: SMD/SMT; Composition: Thick Film; Military Standard: Not; Working Voltage: 150V; Number of Terminations: 2; Length: 2mm; Height: 0.5mm; Width: 1.25mm; Depth: 1.25mm; REACH SVHC: Unknown; Lead Free: Lead Free; ComponentLink1URL: https://datasheet.ciiva.com/11819/0900766b8106beab-11819794.pdf; ComponentLink1Description: https://datasheet.ciiva.com/11819/0900766b8106beab-11819794.pdf; ComponentLink2URL: https://datasheet.ciiva.com/7941/444164-7941685.pdf; ComponentLink2Description: https://datasheet.ciiva.com/7941/444164-7941685.pdf; ComponentLink3URL: https://datasheet.ciiva.com/7941/444164-7941686.pdf; ComponentLink3Description: https://datasheet.ciiva.com/7941/444164-7941686.pdf; ComponentLink4URL: https://datasheet.ciiva.com/46447/444164-46447564.pdf; ComponentLink4Description: https://datasheet.ciiva.com/46447/444164-46447564.pdf; ComponentLink5URL: https://datasheet.ciiva.com/12667/rc0805-12667934.pdf; ComponentLink5Description: https://datasheet.ciiva.com/12667/rc0805-12667934.pdf; ComponentLink6URL: https://datasheet.ciiva.com/16741/rc0805-16741023.pdf; ComponentLink6Description: https://datasheet.ciiva.com/16741/rc0805-16741023.pdf; Supplier Part Number 1: 311-10.0MCRCT-ND
footprint R0805
pins: 1, 2
2 alternate drawings of the same symbol

## RES200
designator R?, comment 200
RT0805BRE07200RL; Manufacturer: Yageo; Resistance: 200R; Tolerance: 0.1%; Temperature Coefficient: 50ppm/°C; Voltage Rating (DC): 150V; Supplier 1: Digi-Key; Manufacturer Part Number: RT0805BRE07200RL; Stock 1: 2864; Pricing 1: 1=0.33, 10=0.276, 100=0.1077, 1000=0.0451, 2500=0.0413 (USD); Case/Package: 0805; Contact Plating: Tin,Matte; Min Operating Temperature: -55°C; Max Operating Temperature: 125°C; Composition: Thin Film; Packaging: Tape and Reel; Military Standard: Not; Length: 2mm; Depth: 1.25mm; Width: 1.25mm; Radiation Hardening: No; Lead Free: Lead Free; ComponentLink1URL: https://datasheet.ciiva.com/8886/pyu-rt-1-to-0-05-rohs-l-4-8886876.pdf; ComponentLink1Description: https://datasheet.ciiva.com/8886/pyu-rt-1-to-0-05-rohs-l-4-8886876.pdf; Supplier Part Number 1: YAG4969CT-ND
footprint R0805
pins: 1, 2
2 alternate drawings of the same symbol

## RES560
designator R?, comment 560R
RC0805FR-07560RL; Manufacturer: Yageo; Tolerance: 1%; Temperature Coefficient: 100ppm/°C; Power Rating: 125mW; Voltage Rating: 150V; Supplier 1: Digi-Key; Manufacturer Part Number: RC0805FR-07560RL; Stock 1: 362473; Pricing 1: 1=0.1, 10=0.022, 100=0.0088, 1000=0.004, 2500=0.0034 (USD); Case/Package: 0805; Weight: 0.000194oz; Case Code (Metric): 2012; Case Code (Imperial): 0805; Min Operating Temperature: -55°C; Max Operating Temperature: 155°C; Resistance: 560R; Packaging: Tape and Reel; Composition: Thick Film; Package Quantity: 1; Number of Terminations: 2; Termination: SMD/SMT; Military Standard: Not; Max Power Dissipation: 125mW; Length: 2mm; Height: 0.5mm; Width: 0.049inch; Depth: 1.25mm; REACH SVHC: Unknown; Lead Free: Lead Free; ComponentLink1URL: https://datasheet.ciiva.com/11808/0900766b8106beab-11808370.pdf; ComponentLink1Description: https://datasheet.ciiva.com/11808/0900766b8106beab-11808370.pdf; ComponentLink2URL: https://datasheet.ciiva.com/2457/pyu-r-int-thick-7-2457140.pdf; ComponentLink2Description: https://datasheet.ciiva.com/2457/pyu-r-int-thick-7-2457140.pdf; ComponentLink3URL: https://datasheet.ciiva.com/2457/pyu-r-int-thick-7-2457141.pdf; ComponentLink3Description: https://datasheet.ciiva.com/2457/pyu-r-int-thick-7-2457141.pdf; ComponentLink4URL: https://datasheet.ciiva.com/5561/rc0805-5561861.pdf; ComponentLink4Description: https://datasheet.ciiva.com/5561/rc0805-5561861.pdf; ComponentLink5URL: https://datasheet.ciiva.com/7941/444164-7941813.pdf; ComponentLink5Description: https://datasheet.ciiva.com/7941/444164-7941813.pdf; ComponentLink6URL: https://datasheet.ciiva.com/2457/pyu-r-int-thick-7-2457142.pdf; ComponentLink6Description: https://datasheet.ciiva.com/2457/pyu-r-int-thick-7-2457142.pdf; ComponentLink7URL: https://datasheet.ciiva.com/7941/444164-7941814.pdf; ComponentLink7Description: https://datasheet.ciiva.com/7941/444164-7941814.pdf; Supplier Part Number 1: 311-560CRCT-ND
footprint R0805
pins: 1, 2

## RES_VAR_1TURN
designator VR?, comment Tunable 2K Max
ST-4ETB202; Manufacturer: Nidec Copal; Resistance: 2kR; Tolerance: 20%; Number of Turns: 1; Max Power Dissipation: 250mW; Temperature Coefficient: 100ppm/°C; Supplier 1: Digi-Key; Manufacturer Part Number: ST-4ETB202; Stock 1: 12486; Pricing 1: 1=1.26, 10=1.114, 25=1.0004, 50=0.965, 100=0.9262, 250=0.8696 (USD); Mount: Surface Mount; Weight: 120mg; Colour: Black; Min Operating Temperature: -55°C; Max Operating Temperature: 125°C; Termination: Gull Wing; Packaging: Tape and Reel; Composition: Cermet; Length: 0.197inch; Height: 0.091inch; Width: 0.177inch; Radiation Hardening: No; Lead Free: Lead Free; ComponentLink1URL: https://datasheet.ciiva.com/2157/st-4-2157762.pdf; ComponentLink1Description: https://datasheet.ciiva.com/2157/st-4-2157762.pdf; ComponentLink2URL: https://datasheet.ciiva.com/2157/st-4-2157763.pdf; ComponentLink2Description: https://datasheet.ciiva.com/2157/st-4-2157763.pdf; ComponentLink3URL: https://datasheet.ciiva.com/2157/st-4-2157764.pdf; ComponentLink3Description: https://datasheet.ciiva.com/2157/st-4-2157764.pdf; Supplier Part Number 1: ST4ETB202CT-ND
footprint res_var (Footprint not found)
pins: 1, 2, 3

## RES_VAR_5TURN
designator VR?, comment Tunable 2K Max
SM-43TW202; Manufacturer: Nidec Copal; Resistance: 2kR; Tolerance: 10%; Number of Turns: 5; Max Power Dissipation: 250mW; Temperature Coefficient: 100ppm/°C; Supplier 1: Digi-Key; Manufacturer Part Number: SM-43TW202; Stock 1: 119; Pricing 1: 1=3.03, 10=2.663, 25=2.388, 50=2.296, 100=2.2042 (USD); Mount: Surface Mount; Min Operating Temperature: -65°C; Max Operating Temperature: 150°C; Package Quantity: 1; Packaging: Tape and Reel; Composition: Cermet; Length: 0.189inch; Height: 0.201inch; Width: 0.138inch; Radiation Hardening: No; ComponentLink1URL: https://datasheet.ciiva.com/2158/sm-42sm-43-2158176.pdf; ComponentLink1Description: https://datasheet.ciiva.com/2158/sm-42sm-43-2158176.pdf; ComponentLink2URL: https://datasheet.ciiva.com/2158/sm-42sm-43-2158174.pdf; ComponentLink2Description: https://datasheet.ciiva.com/2158/sm-42sm-43-2158174.pdf; ComponentLink3URL: https://datasheet.ciiva.com/2158/sm-42sm-43-2158175.pdf; ComponentLink3Description: https://datasheet.ciiva.com/2158/sm-42sm-43-2158175.pdf; Supplier Part Number 1: SM-43TW202CT-ND
footprint res_var_5turn
pins: 1, 2, 3

## SMA_J500-ND
designator S?, comment SMA
142-0701-201; PartNumber: 32K10A-40ML5; Manufacturer: Bel Johnson; Design Note: Footprint in library is a generic example - only application specific footprint delivers High Performance; Body Plating: Gold; Body Material: Brass; Dielectric Material: PTFE; Impedance: 50R; Connector Type: SMA,Socket; Max Frequency: 18GHz; Voltage Rating: 335V; DatasheetVersion: e00; PackageVersion: e00; PackageReference: 32K10A-40ML5; PackageDescription: SMA Straight Jack, Press-Fit, 6.35 x 6.35 x 9.5 mm; Mounting Technology: Surface Mount; ComponentLink1Description: Manufacturer URL; ComponentLink1URL: http://www.rosenberger.de; ComponentLink2Description: Datasheet; ComponentLink2URL: http://rosenberger.de/ok/images/documents/db/32K10A-40ML5.pdf; ComponentLink3Description: Package Specification; ComponentLink3URL: http://rosenberger.de/ok/images/documents/db/32K10A-40ML5.pdf; ComponentLink4Description: Series Overview / Design Note; ComponentLink4URL: http://rosenberger.de/ok/images/documents/spez/32.pdf; ComponentLink5Description: Webshop / RFQ; ComponentLink5URL: http://www.rosenberger.com/en/contact/sales/; Supplier 1: Digi-Key; Manufacturer Part Number: 142-0701-201; Stock 1: 64536; Pricing 1: 1=2.79, 10=2.678, 25=2.4552, 50=2.3436, 100=2.232, 250=1.953, 500=1.8972, 1000=1.6182, 2500=1.5066 (USD); Mount: Through Hole; Case/Package: SMA; Contact Plating: Gold; Contact Material: Copper; Housing Colour: Gold; Min Operating Temperature: -65°C; Max Operating Temperature: 165°C; Termination: Solder; Orientation: Straight; Package Quantity: 25; Packaging: Bulk; Fastening Type: Threaded; ComponentLink6URL: https://cinchconnectivity.com/OA_HTML/ibeCCtpItmDspRte.jsp?item=4253858; ComponentLink6Description: https://cinchconnectivity.com/OA_HTML/ibeCCtpItmDspRte.jsp?item=4253858; ComponentLink7URL: http://www.belfuse.com/resources/Johnson/productinformation/pi-142-0701-201.pdf; ComponentLink7Description: http://www.belfuse.com/resources/Johnson/productinformation/pi-142-0701-201.pdf; Supplier Part Number 1: J500-ND
footprint SMA_J500-ND (J500-ND)
pins: 1, MH

## SW-DPDT
designator Sw_Power?
TL2201EEYA; Manufacturer: E-Switch; Illumination Type: Illuminated; Voltage Rating (DC): 30V; Throw Configuration: DPDT; Current Rating: 100mA; Electrical Life: 10000Cycles; Switch Function: On-On; Actuator Length: 3.2mm; Supplier 1: Digi-Key; Manufacturer Part Number: TL2201EEYA; Stock 1: 3330; Pricing 1: 1=0.66, 10=0.62, 25=0.59, 50=0.5606, 100=0.5458, 250=0.531, 500=0.5015, 1000=0.472, 5000=0.3983 (USD); Mount: Through Hole; Contact Plating: Silver; Housing Material: PBT; Package Quantity: 700; Packaging: Bulk; Termination: PC Pin; Max Voltage Rating (DC): 30V; Orientation: Straight; Lead Free: Lead Free; ComponentLink1URL: https://datasheet.ciiva.com/16192/p010354-16192227.pdf; ComponentLink1Description: https://datasheet.ciiva.com/16192/p010354-16192227.pdf; ComponentLink2URL: https://datasheet.ciiva.com/2879/tl2201-2879556.pdf; ComponentLink2Description: https://datasheet.ciiva.com/2879/tl2201-2879556.pdf; ComponentLink3URL: https://datasheet.ciiva.com/16368/tl2201-16368893.pdf; ComponentLink3Description: https://datasheet.ciiva.com/16368/tl2201-16368893.pdf; Supplier Part Number 1: TL2201EEYA-ND
footprint DPDT-6-1 (Switch; 6 Leads)
pins: 1, 2, 3, 4, 5, 6

## SW-SPST
designator S?
L101011MS02Q; Manufacturer: ITT C&K; Actuator Material: Nylon,Polyamide; Max Voltage Rating (AC): 250V; Max Voltage Rating (DC): 125V; Throw Configuration: SPST; Max Current Rating: 4A; Voltage Rating (DC): 28V; Contact Current Rating: 2A; Electrical Life: 10000Cycles; Switch Travel: 3.81mm; Switch Function: On-Off; Actuator Length: 5.08mm; Supplier 1: Digi-Key; Manufacturer Part Number: L101011MS02Q; Stock 1: 8267; Pricing 1: 1=1.65, 10=1.584, 25=1.5504, 50=1.3482, 100=1.3145, 250=1.2808, 500=1.0786, 1000=1.0112, 5000=0.9269 (USD); Mount: Through Hole; Contact Material: Copper; Contact Plating: Silver; Housing Material: Nylon; Min Operating Temperature: -30°C; Max Operating Temperature: 65°C; Termination: PC Pins; Voltage Rating (AC): 125V; Package Quantity: 1; Packaging: Bulk; Current Rating: 4A; Orientation: Straight; Length: 19.1mm; Depth: 10.8mm; Radiation Hardening: No; Lead Free: Lead Free; ComponentLink1URL: https://datasheet.ciiva.com/17406/l-10jun14-17406600.pdf; ComponentLink1Description: https://datasheet.ciiva.com/17406/l-10jun14-17406600.pdf; ComponentLink2URL: https://datasheet.ciiva.com/18147/getdatasheetpartid-301248-18147196.pdf; ComponentLink2Description: https://datasheet.ciiva.com/18147/getdatasheetpartid-301248-18147196.pdf; ComponentLink3URL: https://datasheet.ciiva.com/2889/l-10jun14-2889869.pdf; ComponentLink3Description: https://datasheet.ciiva.com/2889/l-10jun14-2889869.pdf; Supplier Part Number 1: CKC5106-ND
footprint SPST-2 (Switch; 2 Leads)
pins: 1 COMMON, 2 NO

## UMC
designator UMC?
0734120110; Manufacturer: Molex; Body Material: Bronze; Body Plating: Nickel; Dielectric Material: Polymer; Frequency: 6Hz; Impedance: 50R; Connector Type: Coaxial,Male Pin; Max Frequency: 6GHz; Voltage Rating: 60V; Supplier 1: Digi-Key; Manufacturer Part Number: 0734120110; Stock 1: 37054; Pricing 1: 1=0.73, 10=0.688, 25=0.6188, 50=0.5502, 100=0.5273, 250=0.4814, 500=0.4585, 1000=0.3783, 2500=0.3439 (USD); Mount: Surface Mount; Contact Plating: Gold; Contact Material: Bronze,Brass; Housing Colour: Silver; Insulation Material: Polymer; Min Operating Temperature: -40°C; Max Operating Temperature: 90°C; Packaging: Tape and Reel; Termination: Solder; Package Quantity: 1; Fastening Type: Snap; Length: 3mm; Depth: 3mm; Radiation Hardening: No; ComponentLink1URL: https://datasheet.ciiva.com/3132/0734120110-rf-coax-connectors-3132997.pdf; ComponentLink1Description: https://datasheet.ciiva.com/3132/0734120110-rf-coax-connectors-3132997.pdf; ComponentLink2URL: https://datasheet.ciiva.com/7002/734120110-sd-7002502.pdf; ComponentLink2Description: https://datasheet.ciiva.com/7002/734120110-sd-7002502.pdf; ComponentLink3URL: https://datasheet.ciiva.com/7002/734120110-sd-7002507.pdf; ComponentLink3Description: https://datasheet.ciiva.com/7002/734120110-sd-7002507.pdf; Supplier Part Number 1: WM5587CT-ND
footprint UMC
pins: 1 SIG, 2 GND, 3 GND, 4 GND